# Altium schematic symbol library Capacitors.SCHLIB: 18 symbols
Pins are listed as number, name and electrical type; pins without a type are passive.

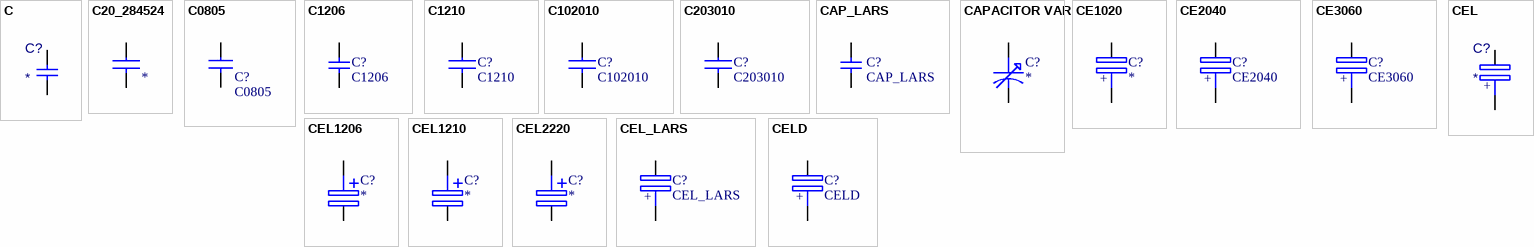
[diagram p0: symbols C to CELD]

## C
designator C?
OtherParams: *
pins: 1, 2

## C20_284524
designator ?
Supplier1: *; Tolerance: *
pins: 1, 2

## C0805
designator C?
Value: C0805
footprint 0805
pins: 1, 2

## C1206
designator C?
Value: C1206
footprint 1206
pins: 1, 2

## C1210
designator C?
Value: C1210
footprint 1210
pins: 1, 2

## C102010
designator C?
Value: C102010
footprint C102010
pins: 1, 2

## C203010
designator C?
Value: C203010
footprint C203010
pins: 1, 2

## CAP_LARS
designator C?
Value: CAP_LARS
pins: 1, 2

## CAPACITOR VAR
designator C?
Supplier1: *; Tolerance: *
pins: 1, 2

## CE1020
designator C?
Supplier1: *; Tolerance: *
footprint CE1020
pins: 1, 2
text: +

## CE2040
designator C?
Value: CE2040
footprint CE2040
pins: 1, 2
1 alternate drawing of the same symbol
text: +

## CE3060
designator C?
Value: CE3060
footprint CE3060
pins: 1, 2
1 alternate drawing of the same symbol
text: +

## CEL
designator C?
Value: *; OtherParams: *
pins: 1, 2
text: +

## CEL1206
designator C?
Supplier1: *; Tolerance: *
footprint CEL1206
pins: 1, 2

## CEL1210
designator C?
Supplier1: *; Tolerance: *
footprint CEL1210
pins: 1, 2

## CEL2220
designator C?
Supplier1: *; Tolerance: *
footprint 2220
pins: 1, 2

## CEL_LARS
designator C?
Value: CEL_LARS
pins: 1, 2
1 alternate drawing of the same symbol
text: +

## CELD
designator C?
Value: CELD
footprint CELD (Footprint not found)
pins: 1, 2
1 alternate drawing of the same symbol
text: +